# Altium schematic symbol library Analog_Project_Schlib.SchLib: 47 symbols
Pins are listed as number, name and electrical type; pins without a type are passive.

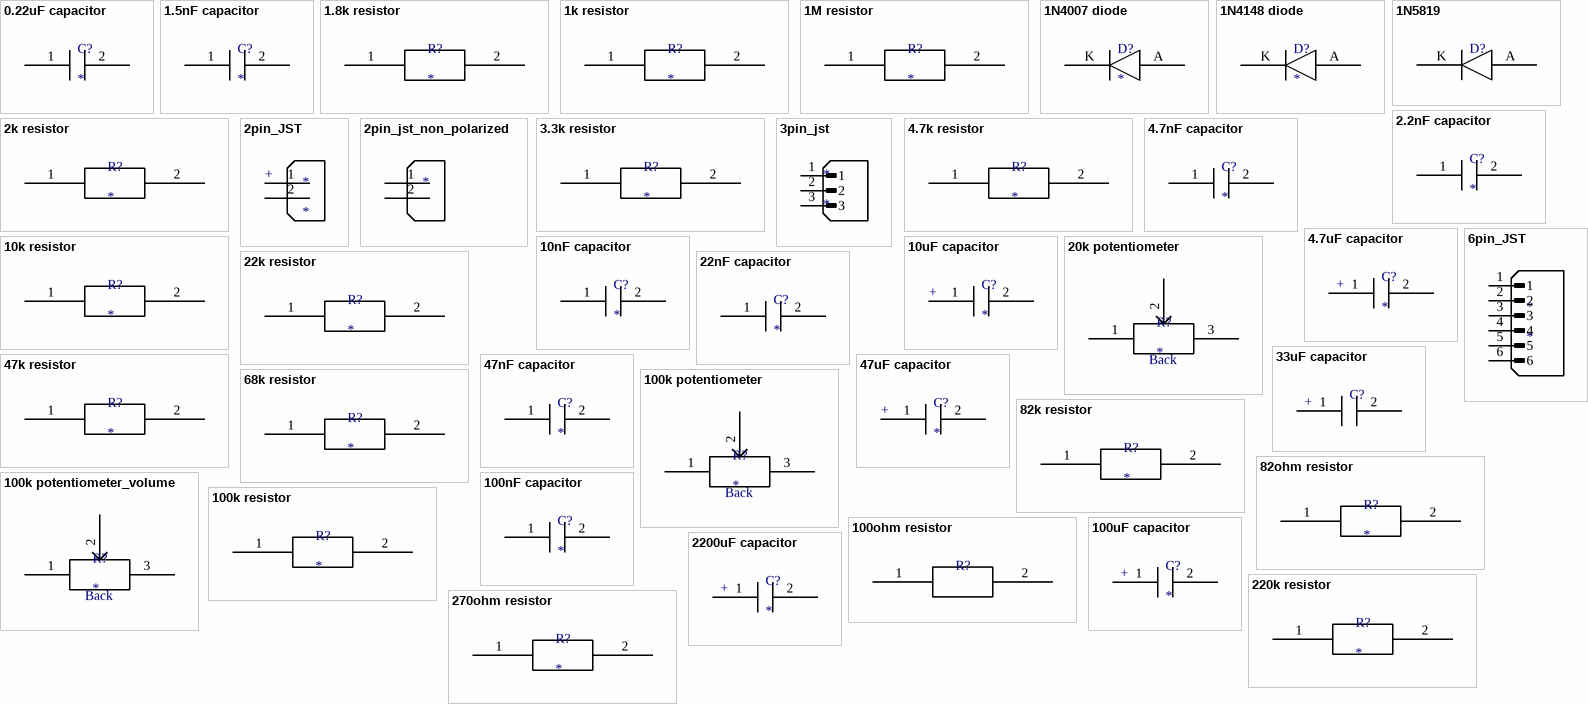
[diagram p0: symbols 0.22uF capacitor to 2200uF capacitor]

## 0.22uF capacitor
designator C?
footprint 0.22uF
pins: 1, 2

## 1.5nF capacitor
designator C?
footprint 1.5nF
pins: 1, 2

## 1.8k resistor
designator R?
footprint 1.8k
pins: 1, 2

## 1k resistor
designator R?
footprint 1k
pins: 1, 2

## 1M resistor
designator R?
footprint 1M
pins: 1, 2

## 1N4007 diode
designator D?
footprint 1N4148
pins: A, K

## 1N4148 diode
designator D?
footprint 1N4148
pins: A, K

## 1N5819
designator D?  (value not drawn)
footprint 1N5819
pins: A, K

## 2.2nF capacitor
designator C?
footprint 2.2nF
pins: 1, 2

## 2k resistor
designator R?
footprint 2k
pins: 1, 2

## 2pin_JST
designator *
footprint 2pin_JST
pins: 1, 2
text: +

## 2pin_jst_non_polarized
designator *  (value not drawn)
footprint 2pin_JST_non_polarized
pins: 1, 2

## 3.3k resistor
designator R?
footprint 3.3k
pins: 1, 2

## 3pin_jst
designator *
footprint 3pin_jst
pins: 1, 2, 3

## 4.7k resistor
designator R?
footprint 4.7k
pins: 1, 2

## 4.7nF capacitor
designator C?
footprint 4.7nF
pins: 1, 2

## 4.7uF capacitor
designator C?
footprint 4.7uF_Capacitor
pins: 1, 2
text: +

## 6pin_JST
designator *
footprint 6pin_JST
pins: 1, 2, 3, 4, 5, 6

## 10k resistor
designator R?
footprint 10k
pins: 1, 2

## 10nF capacitor
designator C?
footprint 10nF
pins: 1, 2

## 10uF capacitor
designator C?
footprint 10uF
pins: 1, 2
text: +

## 20k potentiometer
designator R?
footprint 20k potentiometer
pins: 1, 2, 3
text: Back

## 22k resistor
designator R?
footprint 22k
pins: 1, 2

## 22nF capacitor
designator C?
footprint 22nF
pins: 1, 2  2

## 33uF capacitor
designator C?  (value not drawn)
footprint 33uF
pins: 1, 2
text: +

## 47k resistor
designator R?
footprint 47k
pins: 1, 2

## 47nF capacitor
designator C?
footprint 47nF
pins: 1, 2

## 47uF capacitor
designator C?
footprint 47uF
pins: 1, 2
text: +

## 68k resistor
designator R?
footprint 68k
pins: 1, 2

## 82k resistor
designator R?
footprint 82k
pins: 1, 2

## 82ohm resistor
designator R?
footprint 82
pins: 1, 2

## 100k potentiometer
designator R?
footprint 100k potentiometer
pins: 1, 2, 3
text: Back

## 100k potentiometer_volume
designator R?
footprint 100k potentiometer_volume
pins: 1, 2, 3
text: Back

## 100k resistor
designator R?
footprint 100k
pins: 1, 2

## 100nF capacitor
designator C?
footprint 100nF
pins: 1, 2  

## 100ohm resistor
designator R?  (value not drawn)
footprint 100
pins: 1, 2

## 100uF capacitor
designator C?
footprint 100uF
pins: 1, 2
text: +

## 220k resistor
designator R?
footprint 220k
pins: 1, 2

## 270ohm resistor
designator R?
footprint 270
pins: 1, 2

## 2200uF capacitor
designator C?
footprint 2200uF
pins: 1, 2
text: +

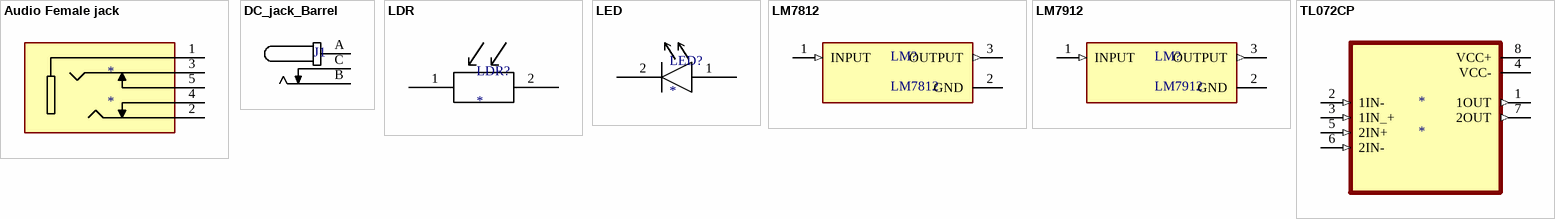
[diagram p1: symbols Audio Female jack to TL072CP]

## Audio Female jack
designator *
footprint Audio Female Jack
pins: 1, 2, 3, 4, 5

## DC_jack_Barrel
designator J1  (value not drawn)
Connector, dc jack 5.5x2.1 mm, PCB mount, 90 degrees, silver plated, thru hole; MF: Tensility International Corp; MP: 54-00133; Package: None; Price: None; Check_prices: https://www.snapeda.com/parts/54-00133/Tensility+International+Corp/view-part/?ref=eda; Value: *; SnapEDA_Link: https://www.snapeda.com/parts/54-00133/Tensility+International+Corp/view-part/?ref=snap; Availability: In Stock; Purchase-URL: https://pricing.snapeda.com/search?q=54-00133&ref=eda
footprint DC_Jack_Barrel
pins: A, B, C

## LDR
designator LDR?
footprint LDR
pins: 1, 2

## LED
designator LED?
footprint LED
pins: 1, 2

## LM7812
designator LM?
footprint LM7812
pins: 1 INPUT (in), 2 GND (power), 3 OUTPUT (out)

## LM7912
designator LM?
footprint LM7912
pins: 1 INPUT (in), 2 GND (power), 3 OUTPUT (out)

## TL072CP
designator *
footprint TL072CP
pins: 1 1OUT (out), 2 1IN- (in), 3 1IN_+ (in), 4 VCC- (power), 5 2IN+ (in), 6 2IN- (in), 7 2OUT (out), 8 VCC+ (power)